# EAGLE library part IDCSN-10 (library diego)
idc-10 90° No parte: IDCSN-10 Fabricante: METALTEX
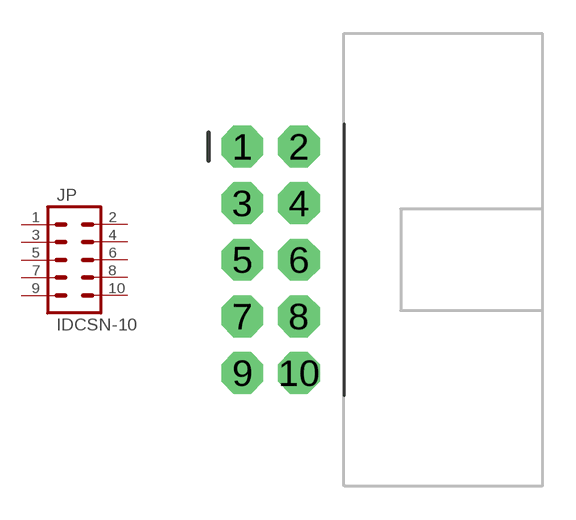
[diagram p2: symbol with the pads of IDCSN-10; footprint IDCSN-10]

Designator prefix JP

## IDCSN-10  [IDCSN-10]
1  1  pas
2  2  pas
3  3  pas
4  4  pas
5  5  pas
6  6  pas
7  7  pas
8  8  pas
9  9  pas
10  10  pas

## Footprint IDCSN-10 (pad centres in mm)
drill 1.016 pad 1.88 octagon: 1 -1.27,5.08; 2 1.27,5.08; 3 -1.27,2.54; 4 1.27,2.54; 5 -1.27,0; 6 1.27,0; 7 -1.27,-2.54; 8 1.27,-2.54; 9 -1.27,-5.08; 10 1.27,-5.08